# Altium schematic symbol library USBHeader.SCHLIB: 2 symbols
Pins are listed as number, name and electrical type; pins without a type are passive.

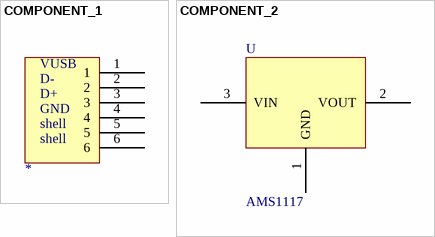
[diagram p0: symbols COMPONENT_1 to COMPONENT_2]

## COMPONENT_1
designator ?
pins: 1, 2, 3, 4, 5, 6
text: VUSB; D-; D+; GND; shell

## COMPONENT_2
designator U, comment AMS1117
pins: 1 GND, 2 VOUT, 3 VIN